# Altium integrated library LT8645SEVPBF.IntLib: 1 symbol
Pins are listed as number, name and electrical type; pins without a type are passive.

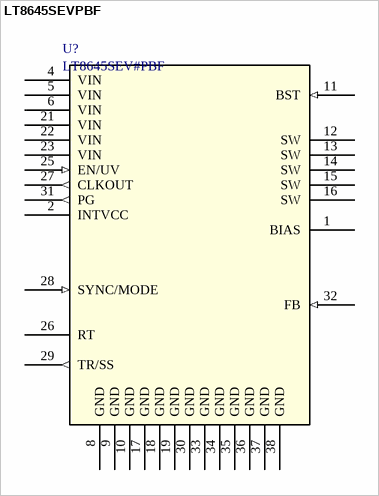
[diagram p0: symbol LT8645SEVPBF]

## LT8645SEVPBF
designator U?, comment LT8645SEV#PBF
65V, 8A Synchronous Step-Down Silent Switcher / with 2.5μA Quiescent Current; Manufacturer: Analog Devices Inc; Type: DEV; Copyright: Copyright (C) 2023 Ultra Librarian. All rights reserved.; Ordering Number: LT8645SEV#PBF; RefDes: RefDes; ComponentLink1Description: Datasheet; ComponentLink1URL: https://www.analog.com/media/en/technical-documentation/data-sheets/lt8645s-2.pdf; ComponentLink2Description: Manufacturer; ComponentLink2URL: https://www.analog.com/en/products/lt8645s-2.html#product-overview; value: LT8645SEV#PBF
footprint 05-08-1512_ADI
pins: 1 BIAS (power), 2 INTVCC (power), 4 VIN (power), 5 VIN (power), 6 VIN (power), 8 GND (power), 9 GND (power), 10 GND (power), 11 BST (in), 12 SW (power), 13 SW (power), 14 SW (power), 15 SW (power), 16 SW (power), 17 GND (power), 18 GND (power), 19 GND (power), 21 VIN (power), 22 VIN (power), 23 VIN (power), 25 EN/UV (in), 26 RT, 27 CLKOUT (out), 28 SYNC/MODE (in), 29 TR/SS (out), 30 GND (power), 31 PG (out), 32 FB (in), 33 GND (power), 34 GND (power), 35 GND (power), 36 GND (power), 37 GND (power), 38 GND (power)